# Altium schematic symbol library LED_Indicator_Sch.SchLib: 4 symbols
Pins are listed as number, name and electrical type; pins without a type are passive.

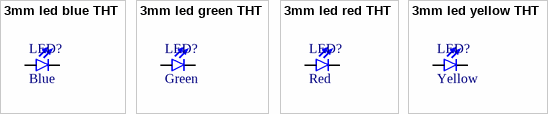
[diagram p0: symbols 3mm led blue THT to 3mm led yellow THT]

## 3mm led blue THT
designator LED?, comment Blue
Color: Blue
footprint 3mm LED THT
pins: A, C

## 3mm led green THT
designator LED?, comment Green
Color: Green
footprint 3mm LED THT
pins: A, C

## 3mm led red THT
designator LED?, comment Red
Color: Red
footprint 3mm LED THT
pins: A, C

## 3mm led yellow THT
designator LED?, comment Yellow
Color: Yellow
footprint 3mm LED THT
pins: A, C